# Altium schematic symbol library tpd6e05u06rvzr.SchLib: 1 symbol
Pins are listed as number, name and electrical type; pins without a type are passive.

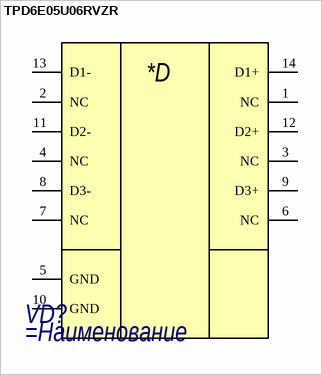
[diagram p0: symbol TPD6E05U06RVZR]

## TPD6E05U06RVZR
designator VD?
=Описание
pins: 1 NC, 2 NC, 3 NC, 4 NC, 5 GND, 6 NC, 7 NC, 8 D3-, 9 D3+, 10 GND, 11 D2-, 12 D2+, 13 D1-, 14 D1+
text: *D